# EAGLE library part XCR3128XL_VQFP (library m-pad-2.1)
Xilinx's XCR3128XL 128 Macrocell CPLD Features: Low power 3.3V 128 macrocell CPLD 6.0 ns pin-to-pin logic delays System frequencies up to 175 MHz 128 macrocells with 3,000 usable gates Available in small footprint packages -144-pin TQFP (108 user I/O pins) - 144-ball CS BGA (108 user I/O) - 100-pin VQFP (84 user I/O) Optimized for 3.3V systems - Ultra low power operation - 5V tolerant I/O pins with 3.3V core supply - Advanced 0.35 micron five layer metal EEPROM process - Fast Zero Power? (FZP) CMOS design technology - 3.3V PCI electrical specification compatible outputs (no internal clamp diode on any input or I/O) Advanced system features - In-system programming - Input registers - Predictable timing model - Up to 23 available clocks per function block - Excellent pin retention during design changes - Full IEEE Standard 1149.1 boundary-scan (JTAG) - Four global clocks - Eight product term control terms per function block Fast ISP programming times Port Enable pin for additional I/O 2.7V to 3.6V supply voltage at industrial temperature range Programmable slew rate control per output Security bit prevents unauthorized access Refer to XPLA3 family data sheet (DS012) for architecture description Description: The XCR3128XL is a 3.3V 128 macrocell CPLD targeted at power sensitive designs that require leading edge programmable logic solutions. A total of eight function blocks provide 3,000 usable gates. Pin-to-pin propagation delays are 6.0 ns with a maximum system frequency of 175 MHz. Please send any comments to: messi@users.sourceforge.net
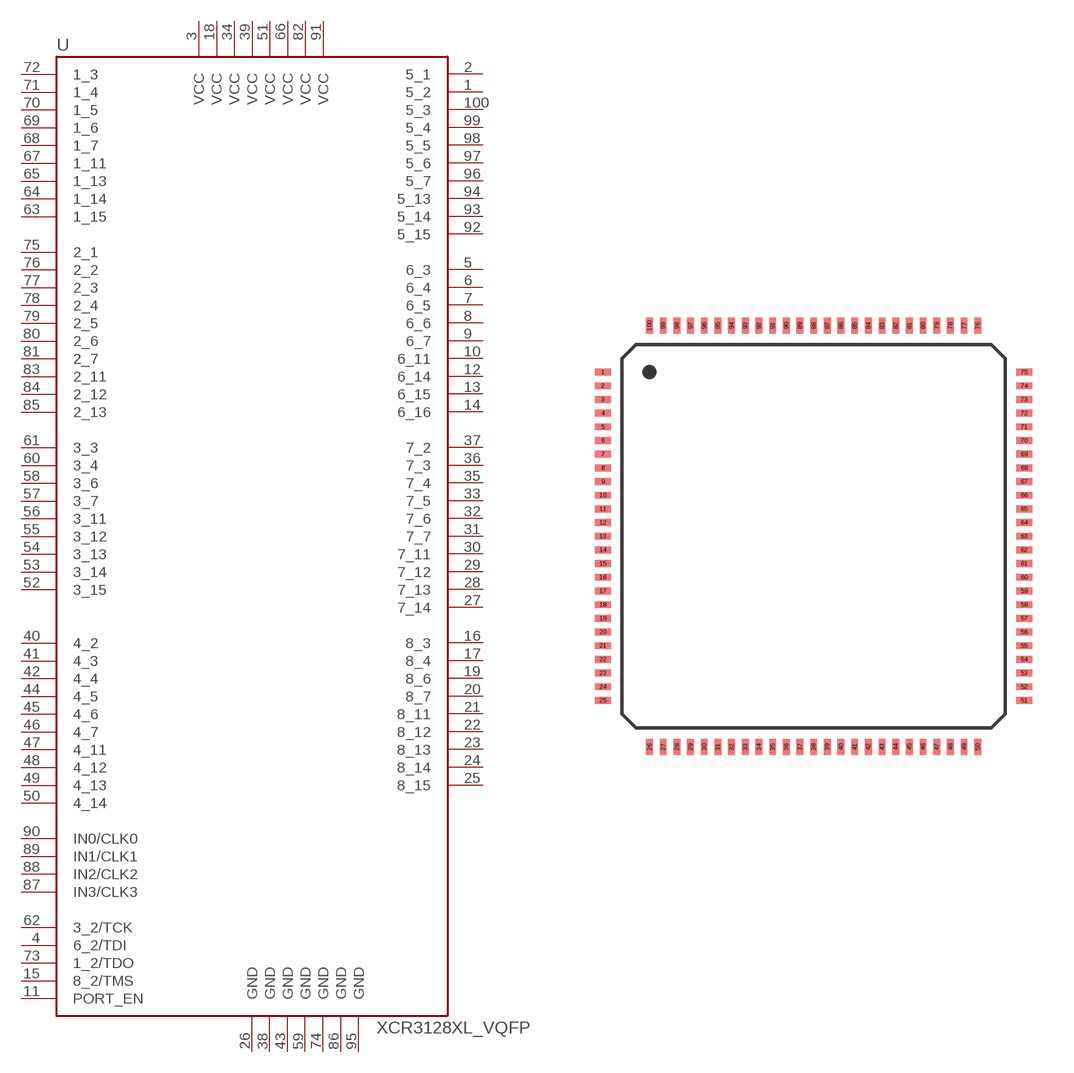
[diagram p34: symbol with the pads of VQFP100; footprint VQFP100]

Designator prefix U

## XCR3128XL_VQFP  [VQFP100]
1  5_2
2  5_1
3  VCC  pwr
4  6_2/TDI
5  6_3
6  6_4
7  6_5
8  6_6
9  6_7
10  6_11
11  PORT_EN  in
12  6_14
13  6_15
14  6_16
15  8_2/TMS
16  8_3
17  8_4
18  VCC  pwr
19  8_6
20  8_7
21  8_11
22  8_12
23  8_13
24  8_14
25  8_15
26  GND  pwr
27  7_14
28  7_13
29  7_12
30  7_11
31  7_7
32  7_6
33  7_5
34  VCC  pwr
35  7_4
36  7_3
37  7_2
38  GND  pwr
39  VCC  pwr
40  4_2
41  4_3
42  4_4
43  GND  pwr
44  4_5
45  4_6
46  4_7
47  4_11
48  4_12
49  4_13
50  4_14
51  VCC  pwr
52  3_15
53  3_14
54  3_13
55  3_12
56  3_11
57  3_7
58  3_6
59  GND  pwr
60  3_4
61  3_3
62  3_2/TCK
63  1_15
64  1_14
65  1_13
66  VCC  pwr
67  1_11
68  1_7
69  1_6
70  1_5
71  1_4
72  1_3
73  1_2/TDO
74  GND  pwr
75  2_1
76  2_2
77  2_3
78  2_4
79  2_5
80  2_6
81  2_7
82  VCC  pwr
83  2_11
84  2_12
85  2_13
86  GND  pwr
87  IN3/CLK3
88  IN2/CLK2
89  IN1/CLK1
90  IN0/CLK0
91  VCC  pwr
92  5_15
93  5_14
94  5_13
95  GND  pwr
96  5_7
97  5_6
98  5_5
99  5_4
100  5_3

## Footprint VQFP100 (pad centres in mm)
VQFP (VQ/VQG 100 Pin) Packages - Pitch: 0.5 mm - Pad-length : 0.6mm - Pad-Width : 0.22mm (0.25) Please send any comments to: messi@users.sourceforge.net
smd 0.6 x 0.25: 1 -7.7,6; 2 -7.7,5.5; 3 -7.7,5; 4 -7.7,4.5; 5 -7.7,4; 6 -7.7,3.5; 7 -7.7,3; 8 -7.7,2.5; 9 -7.7,2; 10 -7.7,1.5; 11 -7.7,1; 12 -7.7,0.5; 13 -7.7,0; 14 -7.7,-0.5; 15 -7.7,-1; 16 -7.7,-1.5; 17 -7.7,-2; 18 -7.7,-2.5; 19 -7.7,-3; 20 -7.7,-3.5; 21 -7.7,-4; 22 -7.7,-4.5; 23 -7.7,-5; 24 -7.7,-5.5; 25 -7.7,-6; 51 7.7,-6; 52 7.7,-5.5; 53 7.7,-5; 54 7.7,-4.5; 55 7.7,-4; 56 7.7,-3.5; 57 7.7,-3; 58 7.7,-2.5; 59 7.7,-2; 60 7.7,-1.5; 61 7.7,-1; 62 7.7,-0.5; 63 7.7,0; 64 7.7,0.5; 65 7.7,1; 66 7.7,1.5; 67 7.7,2; 68 7.7,2.5; 69 7.7,3; 70 7.7,3.5; 71 7.7,4; 72 7.7,4.5; 73 7.7,5; 74 7.7,5.5; 75 7.7,6
smd 0.25 x 0.6: 26 -6,-7.7; 27 -5.5,-7.7; 28 -5,-7.7; 29 -4.5,-7.7; 30 -4,-7.7; 31 -3.5,-7.7; 32 -3,-7.7; 33 -2.5,-7.7; 34 -2,-7.7; 35 -1.5,-7.7; 36 -1,-7.7; 37 -0.5,-7.7; 38 0,-7.7; 39 0.5,-7.7; 40 1,-7.7; 41 1.5,-7.7; 42 2,-7.7; 43 2.5,-7.7; 44 3,-7.7; 45 3.5,-7.7; 46 4,-7.7; 47 4.5,-7.7; 48 5,-7.7; 49 5.5,-7.7; 50 6,-7.7; 76 6,7.7; 77 5.5,7.7; 78 5,7.7; 79 4.5,7.7; 80 4,7.7; 81 3.5,7.7; 82 3,7.7; 83 2.5,7.7; 84 2,7.7; 85 1.5,7.7; 86 1,7.7; 87 0.5,7.7; 88 0,7.7; 89 -0.5,7.7; 90 -1,7.7; 91 -1.5,7.7; 92 -2,7.7; 93 -2.5,7.7; 94 -3,7.7; 95 -3.5,7.7; 96 -4,7.7; 97 -4.5,7.7; 98 -5,7.7; 99 -5.5,7.7; 100 -6,7.7